# EAGLE library part MCP4821P (library Hexellence-MixedSignal)
12-Bit Voltage Output Digital-to-Analog Converter with Internal VREF and SPI Interface
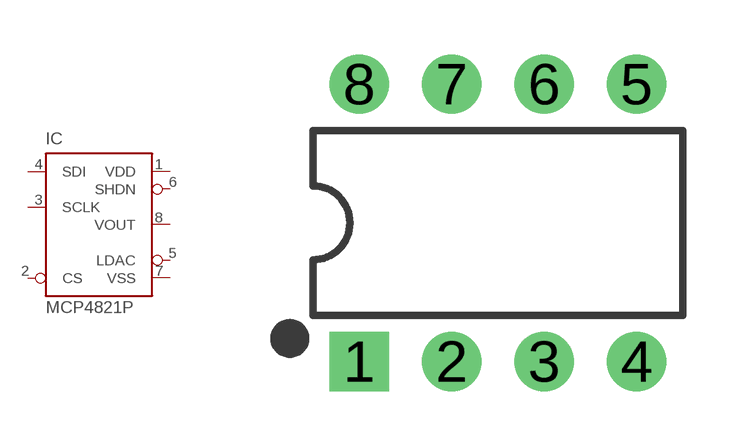
[diagram p0: symbol with the pads of DIP08; footprint DIP08]

Designator prefix IC

## MCP4821P  [DIP08]
1  VDD  pwr
2  CS  in
3  SCLK  in
4  SDI  in
5  LDAC  in
6  SHDN  in
7  VSS  pwr
8  VOUT  out

## Footprint DIP08 (pad centres in mm)
Dual In Line Package
drill 0.813 pad 1.626 square: 1 -3.81,-3.81
drill 0.813 pad 1.626: 2 -1.27,-3.81; 3 1.27,-3.81; 4 3.81,-3.81; 5 3.81,3.81; 6 1.27,3.81; 7 -1.27,3.81; 8 -3.81,3.81